# Altium schematic symbol library BATTERIJ.SchLib: 3 symbols
Pins are listed as number, name and electrical type; pins without a type are passive.

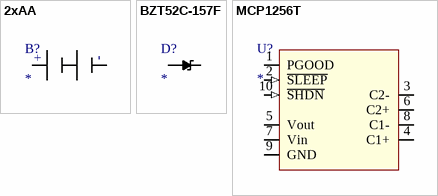
[diagram p0: symbols 2xAA to MCP1256T]

## 2xAA
designator B?
Batterijhouder
footprint BATTERIJHOUDER
pins: 1, 2
text: -; +

## BZT52C-157F
designator D?
Zenerdiode batterij
footprint BTZ52C-157F (Zenerdiode Batterij bescherming)
pins: 1, 2

## MCP1256T
designator U?
Switching Voltage Regulator
footprint MCP1256T (SON, 10-Leads, Body 3.00x3.00mm, Pitch 0.50mm, Thermal Pad 1.50x1.44mm, IPC Low Density)
pins: 1 PGOOD (oc), 2 ~{SLEEP} (in), 3 C2-, 4 C1+, 5 Vout (power), 6 C2+, 7 Vin (power), 8 C1-, 9 GND (power), 10 ~{SHDN} (in)